# EAGLE library part LV8405V (library NicksParts)
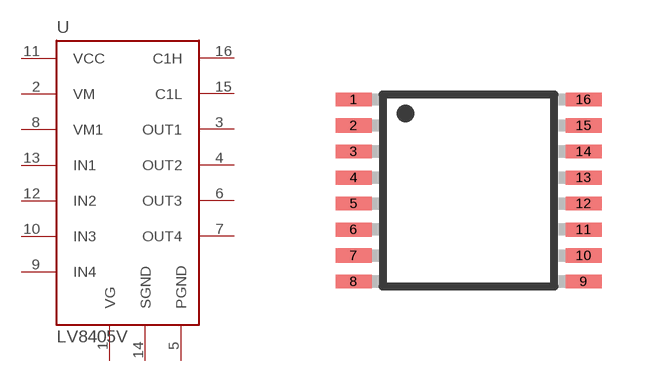
[diagram p5: symbol with the pads of SSOP16; footprint SSOP16]

Designator prefix -

## LV8405V  [SSOP16]
1  VG
2  VM
3  OUT1
4  OUT2
5  PGND
6  OUT3
7  OUT4
8  VM1
9  IN4
10  IN3
11  VCC
12  IN2
13  IN1
14  SGND
15  C1L
16  C1H

## Footprint SSOP16 (pad centres in mm)
smd 0.9 x 0.35: 1 -2.875,2.275; 2 -2.875,1.625; 3 -2.875,0.975; 4 -2.875,0.325; 5 -2.875,-0.325; 6 -2.875,-0.975; 7 -2.875,-1.625; 8 -2.875,-2.275; 9 2.875,-2.275; 10 2.875,-1.625; 11 2.875,-0.975; 12 2.875,-0.325; 13 2.875,0.325; 14 2.875,0.975; 15 2.875,1.625; 16 2.875,2.275